# Altium footprint library PCB Library.PcbLib: 41 footprints (part 2 of 3)
Each footprint in its own frame and in the unit in brackets; x right, y up, seen from the top. Pads: shape width x height; smd on the part's side, far side on the other; paste and mask are expansions set on the pad; w line width, h text height; cw(c..) or ccw(c..) is an arc to the next point about the centre after c.
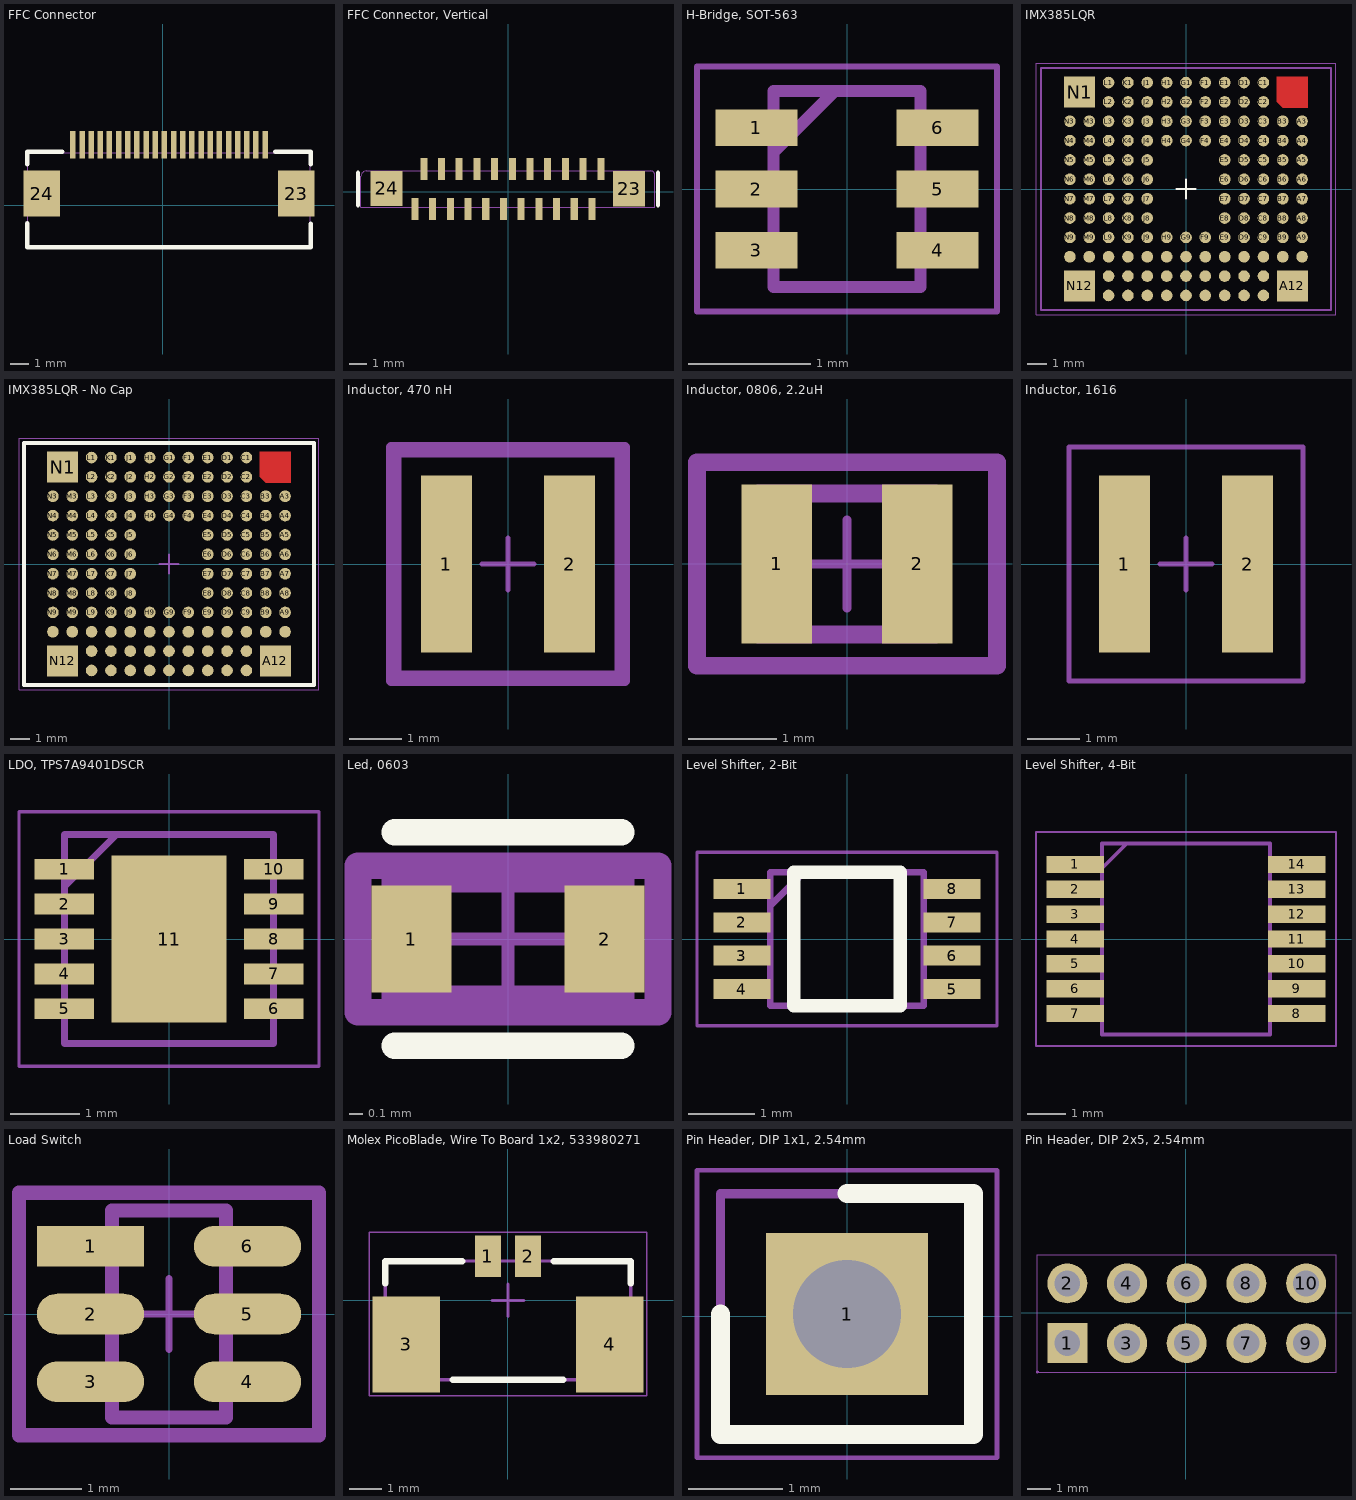
[diagram p1: the footprints below, top view; thin cyan lines are the x and y axes]

## FFC Connector [mm] "#FPC-05F-22PH20, JLC#"
pads (24):
  rect 0.3x1.5 smd paste+0 mask+0: 1(5.58,3.302) 2(5.081,3.302) 3(4.58,3.302) 4(4.081,3.302) 5(3.58,3.302) 6(3.081,3.302) 7(2.58,3.302) 8(2.081,3.302) 9(1.58,3.302) 10(1.081,3.302) 11(0.58,3.302) 12(0.081,3.302) 13(-0.42,3.302) 14(-0.919,3.302) 15(-1.42,3.302) 16(-1.919,3.302) 17(-2.42,3.302) 18(-2.919,3.302) 19(-3.42,3.302) 20(-3.919,3.302) 21(-4.42,3.302) 22(-4.919,3.302)
  rect 2x2.5 smd paste+0 mask+0: 23(7.27,0.627) 24(-6.61,0.627)
Top Overlay:
  lines w0.254: -7.417,-1 -7.417,-2.304 8.077,-2.304 8.077,-1.025 ; -7.417,2.225 -7.417,2.903 -5.5,2.903 ; 6.125,2.903 8.077,2.903 8.077,2.225
Mechanical 15:
  region: 6.62,0.127 6.62,1.127 7.92,1.127 7.92,0.127
  region: 5.48,3.779 5.68,3.779 5.68,2.829 5.48,2.829
  region: 4.981,3.779 5.181,3.779 5.181,2.829 4.981,2.829
  region: 4.48,3.779 4.68,3.779 4.68,2.829 4.48,2.829
  region: 3.981,3.779 4.181,3.779 4.181,2.829 3.981,2.829
  region: 3.48,3.779 3.68,3.779 3.68,2.829 3.48,2.829
  region: 2.981,3.779 3.181,3.779 3.181,2.829 2.981,2.829
  region: 2.48,3.779 2.68,3.779 2.68,2.829 2.48,2.829
  region: 1.981,3.779 2.181,3.779 2.181,2.829 1.981,2.829
  region: 1.48,3.779 1.68,3.779 1.68,2.829 1.48,2.829
  region: 0.981,3.779 1.181,3.779 1.181,2.829 0.981,2.829
  region: 0.48,3.779 0.68,3.779 0.68,2.829 0.48,2.829
  region: -0.019,3.779 0.181,3.779 0.181,2.829 -0.019,2.829
  region: -0.52,3.779 -0.32,3.779 -0.32,2.829 -0.52,2.829
  region: -1.019,3.779 -0.819,3.779 -0.819,2.829 -1.019,2.829
  region: -1.52,3.779 -1.32,3.779 -1.32,2.829 -1.52,2.829
  region: -2.019,3.779 -1.819,3.779 -1.819,2.829 -2.019,2.829
  region: -2.52,3.779 -2.32,3.779 -2.32,2.829 -2.52,2.829
  region: -3.019,3.779 -2.819,3.779 -2.819,2.829 -3.019,2.829
  region: -3.52,3.779 -3.32,3.779 -3.32,2.829 -3.52,2.829
  region: -4.019,3.779 -3.819,3.779 -3.819,2.829 -4.019,2.829
  region: -4.52,3.779 -4.32,3.779 -4.32,2.829 -4.52,2.829
  region: -5.019,3.779 -4.819,3.779 -4.819,2.829 -5.019,2.829
  region: -7.26,0.127 -7.26,1.127 -5.96,1.127 -5.96,0.127
  lines w0.051: -7.37,-2.27 8.03,-2.27 8.03,2.85 -7.37,2.85 -7.37,-2.27
3D body "Conn_Molex_52435-2271_eec.STEP": height 0.25, standoff 0, extent -8.695,-2.304 9.355,3.496

## FFC Connector, Vertical [mm]
pads (24):
  rect 0.4x1.25 smd mask+0: 1(-5.282,-0.96) 2(-4.782,1.29) 3(-4.282,-0.96) 4(-3.782,1.29) 5(-3.282,-0.96) 6(-2.782,1.29) 7(-2.282,-0.96) 8(-1.782,1.29) 9(-1.282,-0.96) 10(-0.782,1.29) 11(-0.282,-0.96) 12(0.218,1.29) 13(0.718,-0.96) 14(1.218,1.29) 15(1.718,-0.96) 16(2.218,1.29) 17(2.718,-0.96) 18(3.218,1.29) 19(3.718,-0.96) 20(4.218,1.29) 21(4.718,-0.96) 22(5.218,1.29)
  rect 1.8x2 smd mask+0: 23(6.818,0.185) 24(-6.882,0.194)
Top Overlay:
  lines w0.254: -8.5,-0.74 -8.5,1.069 ; 8.45,-0.74 8.45,1.07
Mechanical 15:
  region: 5.118,1.665 5.318,1.665 5.318,0.865 5.118,0.865
  region: 4.618,-0.535 4.818,-0.535 4.818,-1.335 4.618,-1.335
  region: 4.118,1.665 4.318,1.665 4.318,0.865 4.118,0.865
  region: 3.618,-0.535 3.818,-0.535 3.818,-1.335 3.618,-1.335
  region: 3.118,1.665 3.318,1.665 3.318,0.865 3.118,0.865
  region: 2.618,-0.535 2.818,-0.535 2.818,-1.335 2.618,-1.335
  region: 2.118,1.665 2.318,1.665 2.318,0.865 2.118,0.865
  region: 1.618,-0.535 1.818,-0.535 1.818,-1.335 1.618,-1.335
  region: 1.118,1.665 1.318,1.665 1.318,0.865 1.118,0.865
  region: 0.618,-0.535 0.818,-0.535 0.818,-1.335 0.618,-1.335
  region: 0.118,1.665 0.318,1.665 0.318,0.865 0.118,0.865
  region: -0.382,-0.535 -0.182,-0.535 -0.182,-1.335 -0.382,-1.335
  region: -0.882,1.665 -0.682,1.665 -0.682,0.865 -0.882,0.865
  region: -1.382,-0.535 -1.182,-0.535 -1.182,-1.335 -1.382,-1.335
  region: -1.882,1.665 -1.682,1.665 -1.682,0.865 -1.882,0.865
  region: -2.382,-0.535 -2.182,-0.535 -2.182,-1.335 -2.382,-1.335
  region: -2.882,1.665 -2.682,1.665 -2.682,0.865 -2.882,0.865
  region: -3.382,-0.535 -3.182,-0.535 -3.182,-1.335 -3.382,-1.335
  region: -3.882,1.665 -3.682,1.665 -3.682,0.865 -3.882,0.865
  region: -4.382,-0.535 -4.182,-0.535 -4.182,-1.335 -4.382,-1.335
  region: -4.882,1.665 -4.682,1.665 -4.682,0.865 -4.882,0.865
  region: -5.382,-0.535 -5.182,-0.535 -5.182,-1.335 -5.382,-1.335
  lines w0.051: -8.332,-0.855 -8.332,0.885 cw(c-8.032,0.885) -8.032,1.185 -8.002,1.185 5.318,1.185 7.998,1.185 8.038,1.185 cw(c8.038,0.945) 8.278,0.945 8.278,0.497 8.278,-0.398 8.278,-0.845 8.278,-0.855 -8.332,-0.855
3D body "78127-2210.stp": height 4.1, standoff 0, extent -6.325,-1.567 6.275,1.883

## H-Bridge, SOT-563 [mm]
pads (6):
  rect 0.67x0.3 smd mask+0: 1(-0.74,0.5) 2(-0.74,0) 3(-0.74,-0.5) 4(0.74,-0.5) 5(0.74,0) 6(0.74,0.5)
Mechanical 13:
  lines w0.1: -0.6,0.3 -0.1,0.8 ; -0.6,-0.8 0.6,-0.8 0.6,0.8 -0.6,0.8 -0.6,-0.8
Mechanical 15:
  lines w0.05: -1.225,-1 1.225,-1 1.225,1 -1.225,1 -1.225,-1
3D body "DRV8210DRLR.stp": height 0.6, standoff 0, extent -0.8,-0.8 0.8,0.8

## IMX385LQR [mm]
height 1.95
pads (132):
  round 0.025 smd mask+0: A1(5.5,5)
  round 0.6 smd mask+0: A3(6,3.5) A4(6,2.5) A5(6,1.5) A6(6,0.5) A7(6,-0.5) A8(6,-1.5) A9(6,-2.5) A10(6,-3.5) B3(5,3.5) B4(5,2.5) B5(5,1.5) B6(5,0.5) B7(5,-0.5) B8(5,-1.5) B9(5,-2.5) B10(5,-3.5) C1(4,5.5) C2(4,4.5) C3(4,3.5) C4(4,2.5) C5(4,1.5) C6(4,0.5) C7(4,-0.5) C8(4,-1.5) C9(4,-2.5) C10(4,-3.5) C11(4,-4.5) C12(4,-5.5) D1(3,5.5) D2(3,4.5) D3(3,3.5) D4(3,2.5) D5(3,1.5) D6(3,0.5) D7(3,-0.5) D8(3,-1.5) D9(3,-2.5) D10(3,-3.5) D11(3,-4.5) D12(3,-5.5) E1(2,5.5) E2(2,4.5) E3(2,3.5) E4(2,2.5) E5(2,1.5) E6(2,0.5) E7(2,-0.5) E8(2,-1.5) E9(2,-2.5) E10(2,-3.5) E11(2,-4.5) E12(2,-5.5) F1(1,5.5) F2(1,4.5) F3(1,3.5) F4(1,2.5) F9(1,-2.5) F10(1,-3.5) F11(1,-4.5) F12(1,-5.5) G1(0,5.5) G2(0,4.5) G3(0,3.5) G4(0,2.5) G9(0,-2.5) G10(0,-3.5) G11(0,-4.5) G12(0,-5.5) H1(-1,5.5) H2(-1,4.5) H3(-1,3.5) H4(-1,2.5) H9(-1,-2.5) H10(-1,-3.5) H11(-1,-4.5) H12(-1,-5.5) J1(-2,5.5) J2(-2,4.5) J3(-2,3.5) J4(-2,2.5) J5(-2,1.5) J6(-2,0.5) J7(-2,-0.5) J8(-2,-1.5) J9(-2,-2.5) J10(-2,-3.5) J11(-2,-4.5) J12(-2,-5.5) K1(-3,5.5) K2(-3,4.5) K3(-3,3.5) K4(-3,2.5) K5(-3,1.5) K6(-3,0.5) K7(-3,-0.5) K8(-3,-1.5) K9(-3,-2.5) K10(-3,-3.5) K11(-3,-4.5) K12(-3,-5.5) L1(-4,5.5) L2(-4,4.5) L3(-4,3.5) L4(-4,2.5) L5(-4,1.5) L6(-4,0.5) L7(-4,-0.5) L8(-4,-1.5) L9(-4,-2.5) L10(-4,-3.5) L11(-4,-4.5) L12(-4,-5.5) M3(-5,3.5) M4(-5,2.5) M5(-5,1.5) M6(-5,0.5) M7(-5,-0.5) M8(-5,-1.5) M9(-5,-2.5) M10(-5,-3.5) N3(-6,3.5) N4(-6,2.5) N5(-6,1.5) N6(-6,0.5) N7(-6,-0.5) N8(-6,-1.5) N9(-6,-2.5) N10(-6,-3.5)
  rect 1.6x1.6 smd mask+0: A12(5.5,-5) N1(-5.5,5) N12(-5.5,-5)
Top Layer:
  region: 4.7,5.8 6.3,5.8 6.3,4.2 5,4.2 4.7,4.5
Top Overlay:
  lines w0.1: -0.5,0 0.5,0 ; 0,-0.5 0,0.5
Mechanical 1:
  lines w0.1: -7.5,-6.25 -7.5,6.25 7.5,6.25 7.5,-6.25 -7.5,-6.25
Mechanical 15:
  lines w0.05: -7.75,-6.5 7.75,-6.5 7.75,6.5 -7.75,6.5 -7.75,-6.5
  lines w0.1: -0.5,0 0.5,0 ; 0,-0.5 0,0.5

## IMX385LQR - No Cap [mm]
height 1.95
pads (132):
  round 0.025 smd: A1(5.5,5)
  round 0.6 smd: A3(6,3.5) A4(6,2.5) A5(6,1.5) A6(6,0.5) A7(6,-0.5) A8(6,-1.5) A9(6,-2.5) A10(6,-3.5) B3(5,3.5) B4(5,2.5) B5(5,1.5) B6(5,0.5) B7(5,-0.5) B8(5,-1.5) B9(5,-2.5) B10(5,-3.5) C1(4,5.5) C2(4,4.5) C3(4,3.5) C4(4,2.5) C5(4,1.5) C6(4,0.5) C7(4,-0.5) C8(4,-1.5) C9(4,-2.5) C10(4,-3.5) C11(4,-4.5) C12(4,-5.5) D1(3,5.5) D2(3,4.5) D3(3,3.5) D4(3,2.5) D5(3,1.5) D6(3,0.5) D7(3,-0.5) D8(3,-1.5) D9(3,-2.5) D10(3,-3.5) D11(3,-4.5) D12(3,-5.5) E1(2,5.5) E2(2,4.5) E3(2,3.5) E4(2,2.5) E5(2,1.5) E6(2,0.5) E7(2,-0.5) E8(2,-1.5) E9(2,-2.5) E10(2,-3.5) E11(2,-4.5) E12(2,-5.5) F1(1,5.5) F2(1,4.5) F3(1,3.5) F4(1,2.5) F9(1,-2.5) F10(1,-3.5) F11(1,-4.5) F12(1,-5.5) G1(0,5.5) G2(0,4.5) G3(0,3.5) G4(0,2.5) G9(0,-2.5) G10(0,-3.5) G11(0,-4.5) G12(0,-5.5) H1(-1,5.5) H2(-1,4.5) H3(-1,3.5) H4(-1,2.5) H9(-1,-2.5) H10(-1,-3.5) H11(-1,-4.5) H12(-1,-5.5) J1(-2,5.5) J2(-2,4.5) J3(-2,3.5) J4(-2,2.5) J5(-2,1.5) J6(-2,0.5) J7(-2,-0.5) J8(-2,-1.5) J9(-2,-2.5) J10(-2,-3.5) J11(-2,-4.5) J12(-2,-5.5) K1(-3,5.5) K2(-3,4.5) K3(-3,3.5) K4(-3,2.5) K5(-3,1.5) K6(-3,0.5) K7(-3,-0.5) K8(-3,-1.5) K9(-3,-2.5) K10(-3,-3.5) K11(-3,-4.5) K12(-3,-5.5) L1(-4,5.5) L2(-4,4.5) L3(-4,3.5) L4(-4,2.5) L5(-4,1.5) L6(-4,0.5) L7(-4,-0.5) L8(-4,-1.5) L9(-4,-2.5) L10(-4,-3.5) L11(-4,-4.5) L12(-4,-5.5) M3(-5,3.5) M4(-5,2.5) M5(-5,1.5) M6(-5,0.5) M7(-5,-0.5) M8(-5,-1.5) M9(-5,-2.5) M10(-5,-3.5) N3(-6,3.5) N4(-6,2.5) N5(-6,1.5) N6(-6,0.5) N7(-6,-0.5) N8(-6,-1.5) N9(-6,-2.5) N10(-6,-3.5)
  rect 1.6x1.6 smd: A12(5.5,-5) N1(-5.5,5) N12(-5.5,-5)
Top Layer:
  region: 4.7,5.8 6.3,5.8 6.3,4.2 5,4.2 4.7,4.5
Top Overlay:
  lines w0.2: -7.5,-6.25 -7.5,6.25 7.5,6.25 7.5,-6.25 -7.5,-6.25
Mechanical 13:
  lines w0.1: -7.5,-6.25 -7.5,6.25 7.5,6.25 7.5,-6.25 -7.5,-6.25
Mechanical 15:
  lines w0.05: -7.75,-6.5 -7.75,6.5 7.75,6.5 7.75,-6.5 -7.75,-6.5
  lines w0.1: -0.5,0 0.5,0 ; 0,-0.5 0,0.5
3D body: height 1.95, standoff 0.08, extent -7.5,-6.225 7.5,6.275
3D body: height 1.97, standoff 0.1, extent -4.25,-2.75 4.25,2.5
3D body: height 1.96, standoff 0.09, extent -6.25,-5 6.25,5

## Inductor, 470 nH [mm] "FP-XFL4015-MFG"
pads (2):
  rect 0.98x3.4 smd mask+0: 1(-1.185,0) 2(1.185,0)
Top 3D Body:
  lines w0.2: -2.15,-2.15 -2.15,2.15 2.15,2.15 2.15,-2.15 -2.15,-2.15
Top Courtyard:
  lines w0.2: -2.25,-2.25 -2.25,2.25 2.25,2.25 2.25,-2.25 -2.25,-2.25
Top Assembly:
  lines w0.2: -2.25,-2.25 -2.25,2.25 2.25,2.25 2.25,-2.25 -2.25,-2.25
Top Component Center:
  lines w0.1: -0.5,0 0.5,0 ; 0,-0.5 0,0.5
3D body "Ind_Coilcraft_XFL4015-471MEB_eec.STEP": height 1.6, standoff 0, extent -2,-2 2,2

## Inductor, 0806, 2.2uH [mm]
pads (2):
  rect 0.8x1.8 smd paste+0 mask+0: 1(-0.8,0) 2(0.8,0)
Top 3D Body:
  lines w0.2: -1,-0.8 1,-0.8 1,0.8 -1,0.8 -1,-0.8
Board:
  lines w0.2: -1.703,-1.153 1.703,-1.153 1.703,1.153 -1.703,1.153 -1.703,-1.153
Top Assembly:
  lines w0.2: -1.703,-1.153 1.703,-1.153 1.703,1.153 -1.703,1.153 -1.703,-1.153
Top Component Center:
  lines w0.1: -0.5,0 0.5,0 ; 0,-0.5 0,0.5
3D body "Ind_Murata_1286AS-H-1R0M=P2_eec.STEP": height 0.25, standoff 0, extent -1.703,-1.153 1.703,1.153

## Inductor, 1616 [mm]
pads (2):
  rect 0.98x3.4 smd paste+0 mask+0: 1(-1.185,0) 2(1.185,0)
Top Assembly:
  lines w0.1: -2.25,-2.25 2.25,-2.25 2.25,2.25 -2.25,2.25 -2.25,-2.25
Top Component Center:
  lines w0.1: -0.5,0 0.5,0 ; 0,-0.5 0,0.5
3D body "Ind_Coilcraft_XGL4030-222MEC_eec.STEP": height 0.25, standoff 0, extent -2.25,-2.25 2.25,2.25

## LDO, TPS7A9401DSCR [mm]
pads (11):
  rect 0.85x0.3 smd mask+0: 1(-1.5,1) 2(-1.5,0.5) 3(-1.5,0) 4(-1.5,-0.5) 5(-1.5,-1) 6(1.5,-1) 7(1.5,-0.5) 8(1.5,0) 9(1.5,0.5) 10(1.5,1)
  rect 1.65x2.4 smd mask+0: 11(0,0)
Mechanical 13:
  lines w0.1: -1.5,0.75 -0.75,1.5 ; -1.5,-1.5 -1.5,1.5 1.5,1.5 1.5,-1.5 -1.5,-1.5
Mechanical 15:
  lines w0.05: -2.15,-1.825 -2.15,1.825 2.15,1.825 2.15,-1.825 -2.15,-1.825
3D body "TPS7A9401DSCR.stp": height 0.8, standoff 0, extent -1.55,-1.5 1.55,1.5

## Led, 0603 [mm]
pads (2):
  rect 0.6x0.8 smd paste+0 mask+0: 1(-0.725,0) 2(0.725,0)
Top Overlay:
  lines w0.2: -0.85,-0.8 0.85,-0.8 ; -0.85,0.8 0.85,0.8
Top 3D Body:
  lines w0.2: -0.85,-0.45 -0.85,0.45 0.85,0.45 0.85,-0.45 -0.85,-0.45
Top Courtyard:
  lines w0.2: -1.125,-0.55 -1.125,0.55 1.125,0.55 1.125,-0.55 -1.125,-0.55
Top Assembly:
  lines w0.2: -1.125,-0.55 -1.125,0.55 1.125,0.55 1.125,-0.55 -1.125,-0.55
Top Component Center:
  lines w0.1: -0.5,0 0.5,0 ; 0,-0.5 0,0.5
3D body "Diode_Vishay_TLMO1000-GS08_eec.STEP": height 0.25, standoff 0, extent -1.125,-0.55 1.125,0.55

## Level Shifter, 2-Bit [mm]
pads (8):
  rect 0.85x0.3 smd mask+0: 1(-1.575,0.75) 2(-1.575,0.25) 3(-1.575,-0.25) 4(-1.575,-0.75) 5(1.575,-0.75) 6(1.575,-0.25) 7(1.575,0.25) 8(1.575,0.75)
Top Overlay:
  lines w0.2: -0.8,-1 0.8,-1 0.8,1 -0.8,1 -0.8,-1
Mechanical 13:
  lines w0.1: -1.15,0.5 -0.65,1 ; -1.15,-1 1.15,-1 1.15,1 -1.15,1 -1.15,-1
Mechanical 15:
  lines w0.05: -2.25,-1.3 2.25,-1.3 2.25,1.3 -2.25,1.3 -2.25,-1.3
3D body "TXS0102DCUR.stp": height 0.77, standoff 0, extent -1.55,-1 1.55,1

## Level Shifter, 4-Bit [mm]
pads (14):
  rect 1.5x0.45 smd mask+0: 1(-2.9,1.95) 2(-2.9,1.3) 3(-2.9,0.65) 4(-2.9,0) 5(-2.9,-0.65) 6(-2.9,-1.3) 7(-2.9,-1.95) 8(2.9,-1.95) 9(2.9,-1.3) 10(2.9,-0.65) 11(2.9,0) 12(2.9,0.65) 13(2.9,1.3) 14(2.9,1.95)
Mechanical 13:
  lines w0.1: -2.2,1.85 -1.55,2.5 ; -2.2,-2.5 2.2,-2.5 2.2,2.5 -2.2,2.5 -2.2,-2.5
Mechanical 15:
  lines w0.05: -3.925,-2.8 3.925,-2.8 3.925,2.8 -3.925,2.8 -3.925,-2.8
3D body "TXS0104EPWR.stp": height 1.13, standoff 0, extent -3.2,-2.5 3.2,2.5

## Load Switch [mm]
pads (6):
  rect 1.505x0.57 smd paste+0 mask+0: 1(-1.1,0.95)
  rrect100% 1.505x0.57 smd paste+0 mask+0: 2(-1.1,0) 3(-1.1,-0.95) 4(1.1,-0.95) 5(1.1,0) 6(1.1,0.95)
Top 3D Body:
  lines w0.2: -0.8,-1.45 0.8,-1.45 0.8,1.45 -0.8,1.45 -0.8,-1.45
Top Courtyard:
  lines w0.2: -2.103,-1.7 2.103,-1.7 2.103,1.7 -2.103,1.7 -2.103,-1.7
Top Assembly:
  lines w0.2: -2.103,-1.7 2.103,-1.7 2.103,1.7 -2.103,1.7 -2.103,-1.7
  text ".Designator" at 0,0.188 h1
Top Component Center:
  lines w0.1: -0.5,0 0.5,0 ; 0,-0.5 0,0.5
3D body "IC_Texas_Instruments_REF35180QDBVR_eec.STEP": height 0.25, standoff 0, extent -2.103,-1.7 2.103,1.7

## Molex PicoBlade, Wire To Board 1x2, 533980271 [mm] "1x2P 2P PicoBlade(MX 1.25) Tin 2 -40℃~+105℃ 1A 1 1.25mm Phosphor Bronze Standing paste SMD,P=1.25mm Wire To Board Connector ROHS"
pads (4):
  rect 0.8x1.3 smd mask+0: 1(-0.625,1.375) 2(0.625,1.375)
  rect 2.1x3 smd mask+0: 3(-3.175,-1.375) 4(3.175,-1.375)
Top Overlay:
  lines w0.2: -3.825,0.525 -3.825,1.225 -1.425,1.225 ; -1.725,-2.475 1.725,-2.475 ; 1.425,1.225 3.825,1.225 3.825,0.525
Mechanical 1:
  lines w0.1: -3.825,-2.475 -3.825,1.225 3.825,1.225 3.825,-2.475 -3.825,-2.475
Mechanical 15:
  lines w0.05: -4.325,-2.975 -4.325,2.125 4.325,2.125 4.325,-2.975 -4.325,-2.975
  lines w0.1: -0.5,0 0.5,0 ; 0,-0.5 0,0.5
3D body "533980271.stp": height 4.72, standoff -0.02, extent -3.825,-2.489 3.825,1.711

## Pin Header, DIP 1x1, 2.54mm [mm]
pads (1):
  rect 1.725x1.725 hole 1.15: 1(0,0.025)
Top Overlay:
  lines w0.2: -1.345,0.025 -1.345,-1.255 1.345,-1.255 1.345,1.305 0,1.305
Mechanical 13:
  lines w0.1: -1.345,-1.255 1.345,-1.255 1.345,1.305 -1.345,1.305 -1.345,-1.255
Mechanical 15:
  lines w0.05: -1.595,-1.505 1.595,-1.505 1.595,1.555 -1.595,1.555 -1.595,-1.505
3D body "68001-100HLF.stp": height 8.58, standoff -3.3, extent -1.27,-1.18 1.27,1.23

## Pin Header, DIP 2x5, 2.54mm [mm]
pads (10):
  rect 1.7x1.7 hole 1.1 mask+0: 1(-5.045,-1.301)
  round 1.7 hole 1.1 mask+0: 2(-5.045,1.239) 3(-2.505,-1.301) 4(-2.505,1.239) 5(0.035,-1.301) 6(0.035,1.239) 7(2.575,-1.301) 8(2.575,1.239) 9(5.115,-1.301) 10(5.115,1.239)
Mechanical 15:
  region: 4.795,-0.981 5.435,-0.981 5.435,-1.621 4.795,-1.621
  region: 4.795,1.559 5.435,1.559 5.435,0.919 4.795,0.919
  region: 2.255,-0.981 2.895,-0.981 2.895,-1.621 2.255,-1.621
  region: 2.255,1.559 2.895,1.559 2.895,0.919 2.255,0.919
  region: -0.285,-0.981 0.355,-0.981 0.355,-1.621 -0.285,-1.621
  region: -0.285,1.559 0.355,1.559 0.355,0.919 -0.285,0.919
  region: -2.825,-0.981 -2.185,-0.981 -2.185,-1.621 -2.825,-1.621
  region: -2.825,1.559 -2.185,1.559 -2.185,0.919 -2.825,0.919
  region: -5.365,-0.981 -4.725,-0.981 -4.725,-1.621 -5.365,-1.621
  region: -5.365,1.559 -4.725,1.559 -4.725,0.919 -5.365,0.919
  region: -6.255,-2.531 -6.255,-2.506 -6.291,-2.471 -6.34,-2.471 -6.375,-2.506 -6.375,-2.531 -6.375,-2.556 -6.34,-2.591 -6.291,-2.591 -6.255,-2.556
  lines w0.051: -6.315,-2.531 6.385,-2.531 6.385,2.469 -6.315,2.469 -6.315,-2.531
3D body "61300511121.stp": height 8.57, standoff -2.97, extent -6.315,-2.571 6.385,-0.031
3D body "61300511121.stp": height 8.57, standoff -2.97, extent -6.315,-0.031 6.385,2.509